# Altium footprint library SWITCH_PUSH.PcbLib: 5 footprints
Each footprint in its own frame and in the unit in brackets; x right, y up, seen from the top. Pads: shape width x height; smd on the part's side, far side on the other; paste and mask are expansions set on the pad; w line width, h text height; cw(c..) or ccw(c..) is an arc to the next point about the centre after c.
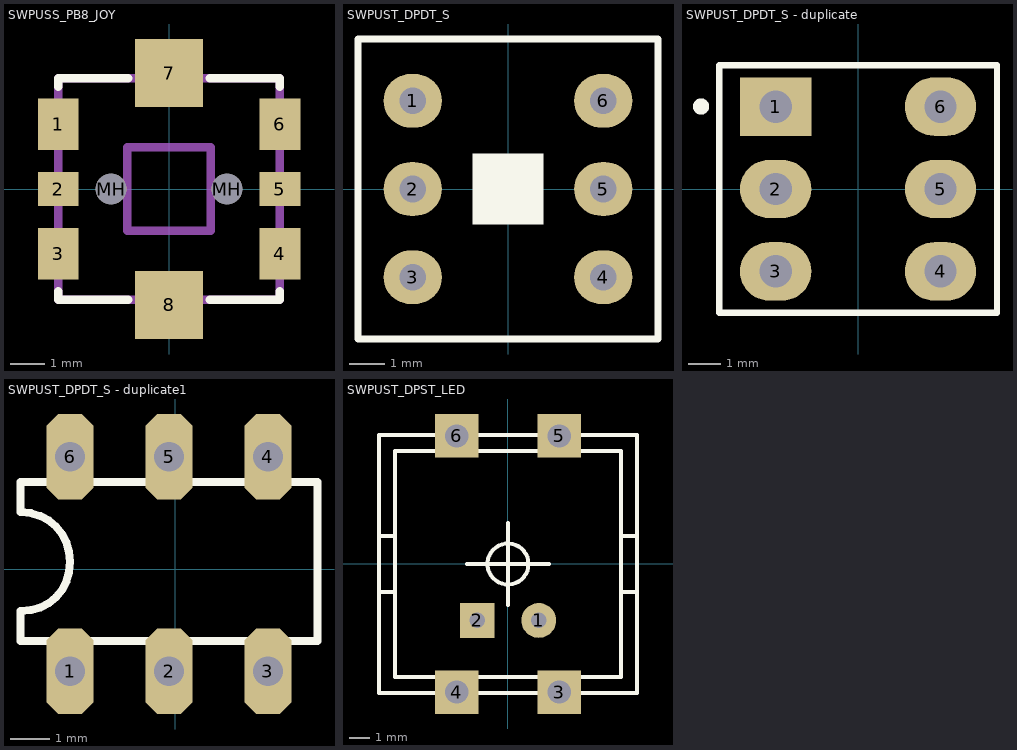
[diagram p0: the footprints below, top view; thin cyan lines are the x and y axes]

## SWPUSS_PB8_JOY [mm] "Switch, Push, Joystick, SMD, Straight, 8Pin"
pads (12):
  rect 1.2x1.5 smd: 1(-3.25,1.9) 3(-3.25,-1.9) 4(3.25,-1.9) 6(3.25,1.9)
  rect 1.2x1 smd: 2(-3.25,0) 5(3.25,0)
  rect 2x2 smd: 7(0,3.4) 8(0,-3.4)
  round 0.9 smd: MH(-1.7,0) MH(1.7,0)
  rect 0x0 hole 0.9: MH(-1.7,0) MH(1.7,0)
Top Overlay:
  lines w0.254: -3.25,-3 -3.25,-3.25 -1.2,-3.25 ; -3.25,3 -3.25,3.25 -1.2,3.25 ; 1.2,-3.25 3.25,-3.25 3.25,-3 ; 1.2,3.25 3.25,3.25 3.25,3
Mechanical 9:
  lines w0.254: -3.25,-3.25 3.25,-3.25 3.25,3.25 -3.25,3.25 -3.25,-3.25 ; -1.225,-1.225 -1.225,1.225 1.225,1.225 1.225,-1.225 -1.225,-1.225

## SWPUST_DPDT_S [mil] "Switch, Push, DPDT, THD, Straight"
pads (6):
  oval 65x60 hole 30: 1(-106.3,98.43) 2(-106.3,0) 3(-106.3,-98.43) 4(106.3,-98.43) 5(106.3,0) 6(106.3,98.43)
Top Overlay:
  rectangle: -39.37,-39.37 39.37,39.37
  lines w7.87: -167.32,-167.32 -167.32,167.32 167.32,167.32 167.32,-167.32 -167.32,-167.32
3D body "DPDT.STEP": height 559.06, standoff -129.92, extent -167.32,-167.32 167.32,167.32

## SWPUST_DPDT_S - duplicate [mm] "Switch, Push, DPDT, THD, Straight"
pads (6):
  rect 2.2x1.8 hole 1: 1(-2.54,2.54)
  oval 2.2x1.8 hole 1: 2(-2.54,0) 3(-2.54,-2.54) 4(2.54,-2.54) 5(2.54,0) 6(2.54,2.54)
Top Overlay:
  circle w0.25: c-4.836,2.541 r0.125
  lines w0.2: -4.28,-3.81 -4.28,3.81 4.28,3.81 4.28,-3.81 -4.28,-3.81
3D body "SWITCH 6PIN.STEP": height 14, standoff -3, extent -3.55,-3.55 3.45,3.45

## SWPUST_DPDT_S - duplicate1 [mm]
height 0.508
pads (6):
  oct 1.2x2.2 hole 0.762: 1(-2.702,-2.614) 2(-0.162,-2.614) 3(2.378,-2.614) 4(2.378,2.885) 5(-0.162,2.885) 6(-2.702,2.885)
Top Overlay:
  lines w0.203: -3.972,-1.845 3.648,-1.845 3.648,2.235 -3.972,2.235 -3.972,1.465 -3.705,1.44 -3.464,1.366 -3.245,1.252 -3.06,1.097 -2.91,0.909 -2.796,0.693 -2.727,0.454 -2.702,0.195 -2.727,-0.072 -2.796,-0.313 -2.91,-0.531 -3.06,-0.717 -3.245,-0.867 -3.464,-0.981 -3.705,-1.05 -3.972,-1.075 -3.972,-1.845
3D body "User Library-MPS-700.STEP": height 14.2, standoff -1.7, extent -3.65,-3.35 3.35,3.65

## SWPUST_DPST_LED [mil] "Switch, Push, DPST, THD, Straight, +LED"
pads (6):
  round 68 hole 30: 1(60,-110)
  rect 68x68 hole 30: 2(-60,-110)
  rect 85x85 hole 45: 3(100,-250) 4(-100,-250) 5(100,250) 6(-100,250)
Top Overlay:
  circle w7.87: c0,0 r40
  lines w7.87: -80,0 0,0 ; 0,-80 0,0 ; 0,80 0,0 ; 80,0 0,0 ; -252,-55 -220,-55 ; -252,-55 -252,55 ; -252,-55 -252,-252 252,-252 252,-55 ; -252,55 -220,55 ; -252,55 -252,252 252,252 252,55 ; -220,-55 -220,-220 220,-220 220,-55 ; -220,-55 -220,55 ; -220,55 -220,220 220,220 220,55 ; 220,-55 252,-55 ; 220,-55 220,55 ; 220,55 252,55 ; 252,-55 252,55